# EAGLE library part PC16SL (library potenciometry)
Dvojité potencometry s plastovým pouzdrem
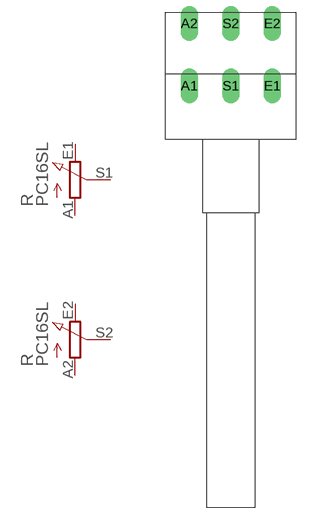
[diagram p2: symbol with the pads of PC16SL; footprint PC16SL]

Designator prefix R; gates G$1=POT_EU2 G$2=POT_EU2

## PC16SL  [PC16SL]
A1  G$1:A  pas
A2  G$2:A  pas
E1  G$1:E  pas
E2  G$2:E  pas
S1  G$1:S  pas
S2  G$2:S  pas

## Footprint PC16SL (pad centres in mm)
drill 1.422 pad 1.93 long: A1 -5.08,0; A2 -5.08,7.62; E1 5.08,0; E2 5.08,7.62; S1 0,0; S2 0,7.62